# EAGLE library part MAX4168 (library NEWPARTS)
High-Output-Drive, Precision, Low-power, Single-Supply, Rail-to-Rail I/O Op Amps with Shutdown
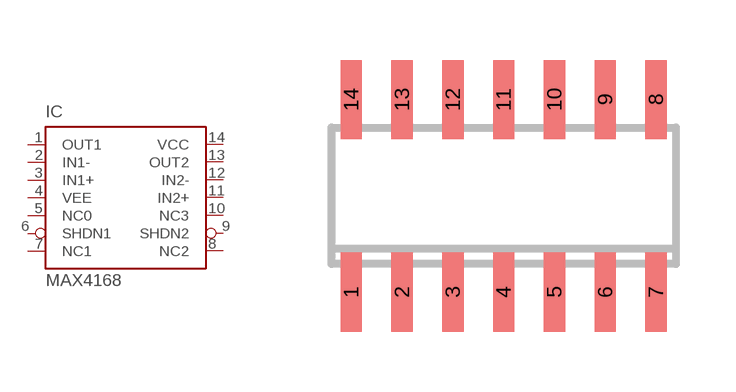
[diagram p3: symbol with the pads of SO14; footprint SO14]

Designator prefix IC

## MAX4168D  [SO14]
1  OUT1  pwr
2  IN1-  out
3  IN1+  in
4  VEE  in
5  NC0  in
6  SHDN1  in
7  NC1  in
8  NC2  pwr
9  SHDN2  pwr
10  NC3  out
11  IN2+  hiz
12  IN2-  in
13  OUT2  in
14  VCC  in

## Footprint SO14 (pad centres in mm)
Small Outline Package 14
smd 0.533 x 1.981: 1 -3.81,-2.219; 2 -2.54,-2.219; 3 -1.27,-2.219; 4 0,-2.219; 5 1.27,-2.219; 6 2.54,-2.219; 7 3.81,-2.219; 8 3.81,2.6; 9 2.54,2.6; 10 1.27,2.6; 11 0,2.6; 12 -1.27,2.6; 13 -2.54,2.6; 14 -3.81,2.6